# Altium footprint library wifi-con.PcbLib: 1 footprints
Each footprint in its own frame and in the unit in brackets; x right, y up, seen from the top. Pads: shape width x height; smd on the part's side, far side on the other; paste and mask are expansions set on the pad; w line width, h text height; cw(c..) or ccw(c..) is an arc to the next point about the centre after c.
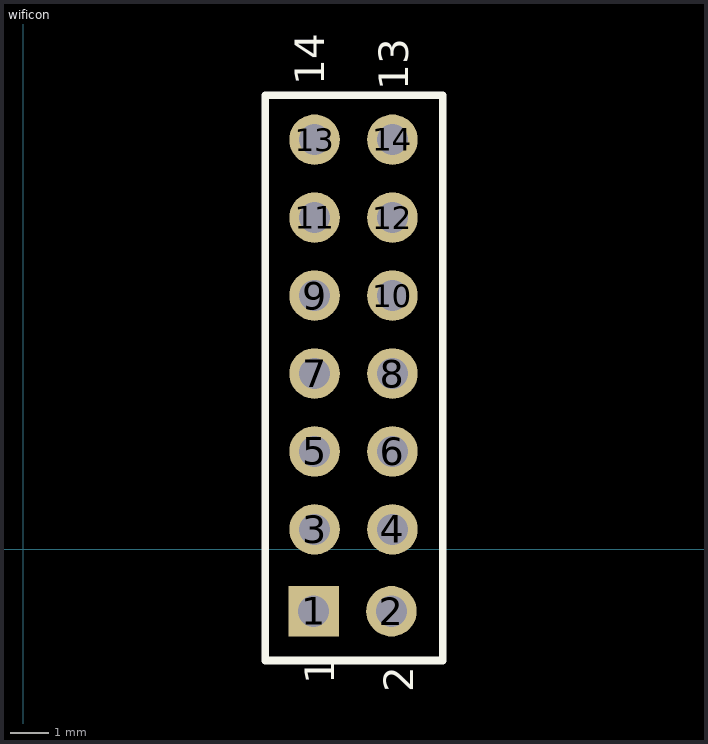
[diagram p0: the footprint, top view; thin cyan lines are the x and y axes]

## wificon [mm]
pads (14):
  rect 1.3x1.3 hole 0.8: 1(7.468,-1.6)
  round 1.3 hole 0.8: 2(9.474,-1.6) 3(7.493,0.508) 4(9.5,0.508) 5(7.493,2.515) 6(9.5,2.515) 7(7.493,4.521) 8(9.5,4.521) 9(7.493,6.528) 10(9.5,6.528) 11(7.493,8.534) 12(9.5,8.534) 13(7.493,10.541) 14(9.5,10.541)
Top Overlay:
  lines w0.2: 6.223,-2.87 6.223,11.684 10.795,11.684 10.795,-2.87 6.223,-2.87
  text "2" at 10.033,-3.683 h0.76
  text "13" at 9.906,11.811 h0.76
  text "14" at 7.747,11.938 h0.76
  text "1" at 8,-3.484 h0.76